# EAGLE library part USB_BOI (library ColorfulTunes)
Mouser 710-614004190021
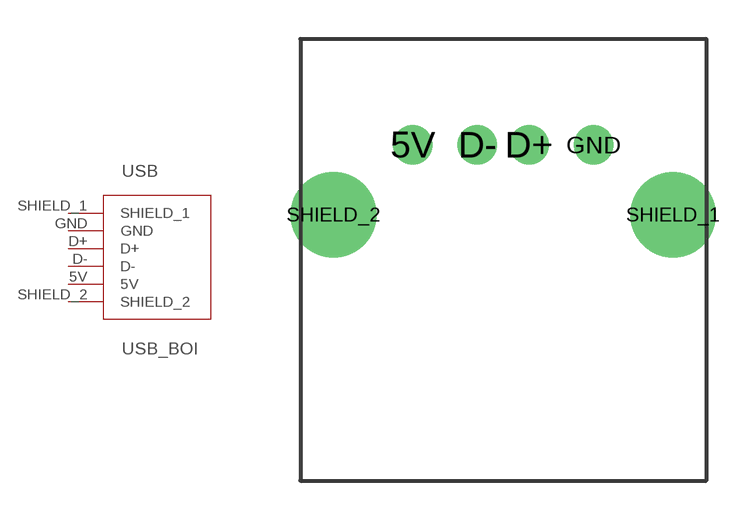
[diagram p2: symbol with the pads of USB_BOI; footprint USB_BOI]

Designator prefix USB

## USB_BOI  [USB_BOI]
5V  5V
D+  D+
D-  D-
GND  GND
SHIELD_1  SHIELD_1
SHIELD_2  SHIELD_2

## Footprint USB_BOI (pad centres in mm)
drill 0.92 pad 1.524: 5V -3.5,0; D+ 1,0; D- -1,0; GND 3.5,0
drill 2.3 pad 3: SHIELD_1 6.57,-2.71; SHIELD_2 -6.57,-2.71